# Altium schematic symbol library MergenElektronik_CircuitProtections_PTCs.SchLib: 1 symbol
Pins are listed as number, name and electrical type; pins without a type are passive.

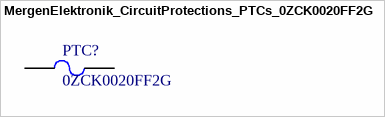
[diagram p0: symbol MergenElektronik_CircuitProtections_PTCs_0ZCK0020FF2G]

## MergenElektronik_CircuitProtections_PTCs_0ZCK0020FF2G
designator PTC?, comment 0ZCK0020FF2G
Mergen Elektronik - Circuit Protections - PTCs - 0ZCK0020FF2G; Manufacturer: Bel Fuse Inc.; Model: PTC Fuse; Voltage Rated: 9V; Current Rating: 500 mA; Current - Max: 100A; Current - Hold: 200 mA; Digi-Key Number: 507-1811-1-ND; Manufacturer Number: 0ZCK0020FF2G; Mounting Type: Surface Mount; Mouser Number: 530-0ZCK0020FF2G; Package: 0805(2012); Temperature: -40°C up to 85°C; Value: 0ZCK0020FF2G; Current - Trip: 500 mA; Supplier 1: Digi-Key; Supplier 2: Mouser; Supplier Part Number 1: 507-1811-6-ND; Supplier Part Number 2: 530-0ZCK0020FF2G
footprint MergenElektronik_CircuitProtections_PTCs_0603_L (0603 Large)
footprint MergenElektronik_CircuitProtections_PTCs_0603_L_NS (0603 Large - No Silcscreen)
footprint MergenElektronik_CircuitProtections_PTCs_0603_M (0603 Medium)
footprint MergenElektronik_CircuitProtections_PTCs_0603_M_NS (0603 Medium - No Silkscreen)
footprint MergenElektronik_CircuitProtections_PTCs_0603_S (0603 Small)
footprint MergenElektronik_CircuitProtections_PTCs_0603_S_NS (0603 Small - No Silkscreen)
pins: 1, 2